# Altium schematic symbol library SN65HVD.SchLib: 4 symbols
Pins are listed as number, name and electrical type; pins without a type are passive.

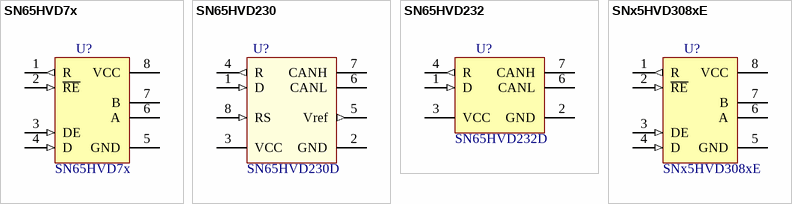
[diagram p0: symbols SN65HVD7x to SNx5HVD308xE]

## SN65HVD7x
designator U?
3.3-V Supply RS-485 With IEC ESD protection; Value: SN65HVD7x
footprint D008_N (8-Pin Small Outline Integrated Circuit 1.27 mm Pitch, IPC Medium Density)
pins: 1 R (out), 2 ~{RE} (in), 3 DE (in), 4 D (in), 5 GND (power), 6 A, 7 B, 8 VCC (power)

## SN65HVD230
designator U?  value SN65HVD230D  (hidden comment: SN65HVD230)
footprint D008_N (8-Pin Small Outline Integrated Circuit 1.27 mm Pitch, IPC Medium Density)
pins: 1 D (in), 2 GND (power), 3 VCC (power), 4 R (out), 5 Vref (out), 6 CANL, 7 CANH, 8 RS (in)

## SN65HVD232
designator U?  value SN65HVD232D  (hidden comment: SN65HVD232)
footprint D008_N (8-Pin Small Outline Integrated Circuit 1.27 mm Pitch, IPC Medium Density)
pins: 1 D (in), 2 GND (power), 3 VCC (power), 4 R (out), 6 CANL, 7 CANH

## SNx5HVD308xE
designator U?
Low-Power RS-485 Transceivers, Available in a Small MSOP-8 Package; Value: SNx5HVD308xE
footprint D008_N (8-Pin Small Outline Integrated Circuit 1.27 mm Pitch, IPC Medium Density)
pins: 1 R (out), 2 ~{RE} (in), 3 DE (in), 4 D (in), 5 GND (power), 6 A, 7 B, 8 VCC (power)